# Altium schematic symbol library ANTENAS.SchLib: 3 symbols
Pins are listed as number, name and electrical type; pins without a type are passive.

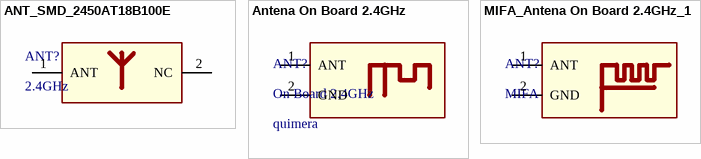
[diagram p0: symbols ANT_SMD_2450AT18B100E to MIFA_Antena On Board 2.4GHz_1]

## ANT_SMD_2450AT18B100E
designator ANT?, comment 2.4GHz
RF ANT 2.4GHZ CHIP SOLDER SMD; MPN: 2450AT18B100E; Fabricante: Johanson Technology Inc.; Footprint: SMD; Value: 2.4GHz
footprint ANT_2450AT18B100E (ANTENA SMD, 2-Leads, Body 3,20x1,60mm, IPC Medium Density)
pins: 1 ANT, 2 NC

## Antena On Board 2.4GHz
designator ANT?, comment On Board 2.4GHz  Projeto: quimera
Small Size 2.4 GHz PCB antenna; MPN: UNDEFINED; Fabricante: DESIGN; Footprint: OnBoard; Value: On Board 2.4GHz
footprint Antena On Board 2.4GHz (Small Size 2.4 GHz PCB antenna)
pins: 1 ANT, 2 GND

## MIFA_Antena On Board 2.4GHz_1
designator ANT?, comment MIFA
Small Size 2.4 GHz PCB antenna MIFA; Fabricante: DESIGN; Footprint: OnBoard; MPN: MIFA; Value: MIFA
footprint MIFA_ANTENA
pins: 1 ANT, 2 GND